# Altium schematic symbol library Si2323DDS-T1-GE3.SchLib: 1 symbol
Pins are listed as number, name and electrical type; pins without a type are passive.

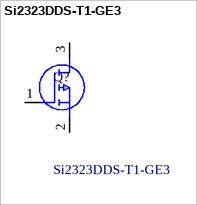
[diagram p0: symbol Si2323DDS-T1-GE3]

## Si2323DDS-T1-GE3
designator Q?
VISHAY - SI2323DDS-T1-GE3 - Power MOSFET, P Channel, 20 V, 5.3 A, 0.032 ohm, SOT-23, Surface Mount; Geometry.Height: 1.12mm; Mouser Part Number: 78-SI2323DDS-T1-GE3; Mouser Price/Stock: https://www.mouser.co.uk/ProductDetail/Vishay-Semiconductors/SI2323DDS-T1-GE3?qs=vgn07B5hXavjZXK0uPQNiA%3D%3D; Manufacturer_Name: Vishay; Manufacturer_Part_Number: Si2323DDS-T1-GE3; Datasheet Link: https://altium.componentsearchengine.com/Datasheets/2/SI2323DDS-T1-GE3.pdf
footprint SOT95P237X112-3N
pins: 1 G, 2 S, 3 D